# EAGLE library part ATSAMD51N (library greg-MCU)
Atmel SAMD51N ARM Cortex-M4 Microcontroller The SAM D51 high performance micro-controller series is targeted for general purpose applications using the 32-bit ARM® Cortex®-M4 processor with Floating Point Unit (FPU), running up to 120 MHz, up to 1 MB Dual Panel Flash with ECC, and up to 256 KB of SRAM with ECC .
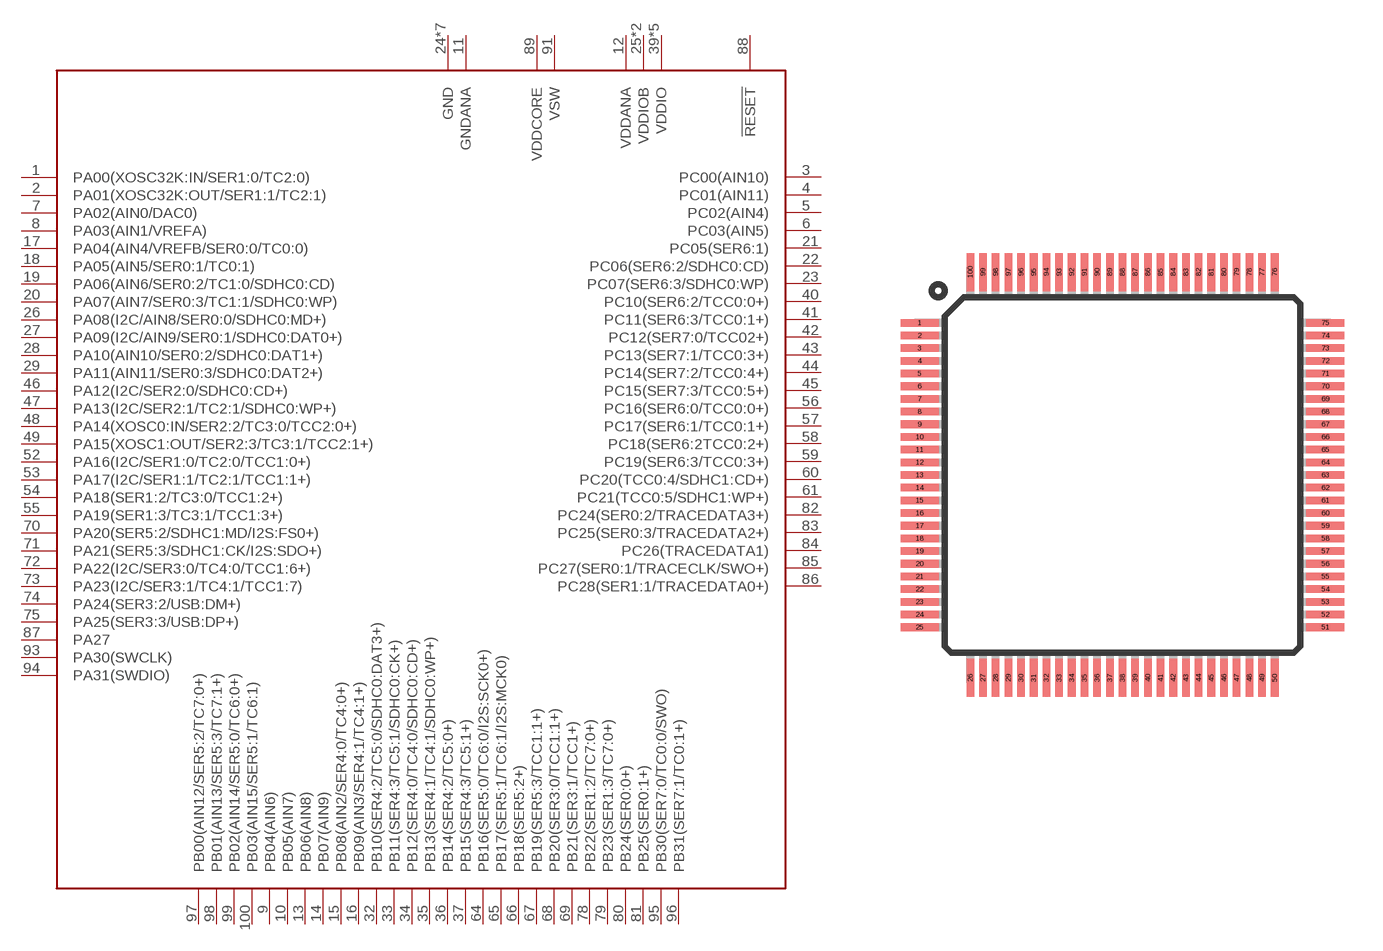
[diagram p2: symbol with the pads of TQFP100; footprint TQFP100]

Designator prefix U

## ATSAMD51NA  [TQFP100]
1  PA00(XOSC32K:IN/SER1:0/TC2:0)
2  PA01(XOSC32K:OUT/SER1:1/TC2:1)
3  PC00(AIN10)
4  PC01(AIN11)
5  PC02(AIN4)
6  PC03(AIN5)
7  PA02(AIN0/DAC0)
8  PA03(AIN1/VREFA)
9  PB04(AIN6)
10  PB05(AIN7)
11  GNDANA  pwr
12  VDDANA  pwr
13  PB06(AIN8)
14  PB07(AIN9)
15  PB08(AIN2/SER4:0/TC4:0+)
16  PB09(AIN3/SER4:1/TC4:1+)
17  PA04(AIN4/VREFB/SER0:0/TC0:0)
18  PA05(AIN5/SER0:1/TC0:1)
19  PA06(AIN6/SER0:2/TC1:0/SDHC0:CD)
20  PA07(AIN7/SER0:3/TC1:1/SDHC0:WP)
21  PC05(SER6:1)
22  PC06(SER6:2/SDHC0:CD)
23  PC07(SER6:3/SDHC0:WP)
24  GND  pwr
25  VDDIOB  pwr
26  PA08(I2C/AIN8/SER0:0/SDHC0:MD+)
27  PA09(I2C/AIN9/SER0:1/SDHC0:DAT0+)
28  PA10(AIN10/SER0:2/SDHC0:DAT1+)
29  PA11(AIN11/SER0:3/SDHC0:DAT2+)
30  VDDIOB  pwr
31  GND  pwr
32  PB10(SER4:2/TC5:0/SDHC0:DAT3+)
33  PB11(SER4:3/TC5:1/SDHC0:CK+)
34  PB12(SER4:0/TC4:0/SDHC0:CD+)
35  PB13(SER4:1/TC4:1/SDHC0:WP+)
36  PB14(SER4:2/TC5:0+)
37  PB15(SER4:3/TC5:1+)
38  GND  pwr
39  VDDIO  pwr
40  PC10(SER6:2/TCC0:0+)
41  PC11(SER6:3/TCC0:1+)
42  PC12(SER7:0/TCC02+)
43  PC13(SER7:1/TCC0:3+)
44  PC14(SER7:2/TCC0:4+)
45  PC15(SER7:3/TCC0:5+)
46  PA12(I2C/SER2:0/SDHC0:CD+)
47  PA13(I2C/SER2:1/TC2:1/SDHC0:WP+)
48  PA14(XOSC0:IN/SER2:2/TC3:0/TCC2:0+)
49  PA15(XOSC1:OUT/SER2:3/TC3:1/TCC2:1+)
50  GND  pwr
51  VDDIO  pwr
52  PA16(I2C/SER1:0/TC2:0/TCC1:0+)
53  PA17(I2C/SER1:1/TC2:1/TCC1:1+)
54  PA18(SER1:2/TC3:0/TCC1:2+)
55  PA19(SER1:3/TC3:1/TCC1:3+)
56  PC16(SER6:0/TCC0:0+)
57  PC17(SER6:1/TCC0:1+)
58  PC18(SER6:2TCC0:2+)
59  PC19(SER6:3/TCC0:3+)
60  PC20(TCC0:4/SDHC1:CD+)
61  PC21(TCC0:5/SDHC1:WP+)
62  GND  pwr
63  VDDIO  pwr
64  PB16(SER5:0/TC6:0/I2S:SCK0+)
65  PB17(SER5:1/TC6:1/I2S:MCK0)
66  PB18(SER5:2+)
67  PB19(SER5:3/TCC1:1+)
68  PB20(SER3:0/TCC1:1+)
69  PB21(SER3:1/TCC1+)
70  PA20(SER5:2/SDHC1:MD/I2S:FS0+)
71  PA21(SER5:3/SDHC1:CK/I2S:SDO+)
72  PA22(I2C/SER3:0/TC4:0/TCC1:6+)
73  PA23(I2C/SER3:1/TC4:1/TCC1:7)
74  PA24(SER3:2/USB:DM+)
75  PA25(SER3:3/USB:DP+)
76  GND  pwr
77  VDDIO  pwr
78  PB22(SER1:2/TC7:0+)
79  PB23(SER1:3/TC7:0+)
80  PB24(SER0:0+)
81  PB25(SER0:1+)
82  PC24(SER0:2/TRACEDATA3+)
83  PC25(SER0:3/TRACEDATA2+)
84  PC26(TRACEDATA1)
85  PC27(SER0:1/TRACECLK/SWO+)
86  PC28(SER1:1/TRACEDATA0+)
87  PA27
88  !RESET!
89  VDDCORE
90  GND  pwr
91  VSW
92  VDDIO  pwr
93  PA30(SWCLK)
94  PA31(SWDIO)
95  PB30(SER7:0/TC0:0/SWO)
96  PB31(SER7:1/TC0:1+)
97  PB00(AIN12/SER5:2/TC7:0+)
98  PB01(AIN13/SER5:3/TC7:1+)
99  PB02(AIN14/SER5:0/TC6:0+)
100  PB03(AIN15/SER5:1/TC6:1)

## Footprint TQFP100 (pad centres in mm)
100-lead Thin Quad Flat Pack Package Outline
smd 1.5 x 0.3: 1 -8,6; 2 -8,5.5; 3 -8,5; 4 -8,4.5; 5 -8,4; 6 -8,3.5; 7 -8,3; 8 -8,2.5; 9 -8,2; 10 -8,1.5; 11 -8,1; 12 -8,0.5; 13 -8,0; 14 -8,-0.5; 15 -8,-1; 16 -8,-1.5; 17 -8,-2; 18 -8,-2.5; 19 -8,-3; 20 -8,-3.5; 21 -8,-4; 22 -8,-4.5; 23 -8,-5; 24 -8,-5.5; 25 -8,-6; 51 8,-6; 52 8,-5.5; 53 8,-5; 54 8,-4.5; 55 8,-4; 56 8,-3.5; 57 8,-3; 58 8,-2.5; 59 8,-2; 60 8,-1.5; 61 8,-1; 62 8,-0.5; 63 8,0; 64 8,0.5; 65 8,1; 66 8,1.5; 67 8,2; 68 8,2.5; 69 8,3; 70 8,3.5; 71 8,4; 72 8,4.5; 73 8,5; 74 8,5.5; 75 8,6
smd 0.3 x 1.5: 26 -6,-8; 27 -5.5,-8; 28 -5,-8; 29 -4.5,-8; 30 -4,-8; 31 -3.5,-8; 32 -3,-8; 33 -2.5,-8; 34 -2,-8; 35 -1.5,-8; 36 -1,-8; 37 -0.5,-8; 38 0,-8; 39 0.5,-8; 40 1,-8; 41 1.5,-8; 42 2,-8; 43 2.5,-8; 44 3,-8; 45 3.5,-8; 46 4,-8; 47 4.5,-8; 48 5,-8; 49 5.5,-8; 50 6,-8; 76 6,8; 77 5.5,8; 78 5,8; 79 4.5,8; 80 4,8; 81 3.5,8; 82 3,8; 83 2.5,8; 84 2,8; 85 1.5,8; 86 1,8; 87 0.5,8; 88 0,8; 89 -0.5,8; 90 -1,8; 91 -1.5,8; 92 -2,8; 93 -2.5,8; 94 -3,8; 95 -3.5,8; 96 -4,8; 97 -4.5,8; 98 -5,8; 99 -5.5,8; 100 -6,8